# Altium schematic symbol library C25818.SchLib: 1 symbol
Pins are listed as number, name and electrical type; pins without a type are passive.

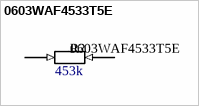
[diagram p0: symbol 0603WAF4533T5E]

## 0603WAF4533T5E
designator R?  value 453k
453kÎ© Â±1% 100mW 0603 Thick Film Resistor; Name: C25818; Source: LCSC
footprint R0603 (6.8k? ±5% 100mW 0603 Thick Film Resistor AEC-Q200)
pins: 1 (in), 2 (in)